# EAGLE library part BTS611 (library JLB6_power)
Dual high side switch BTS611 Infineon
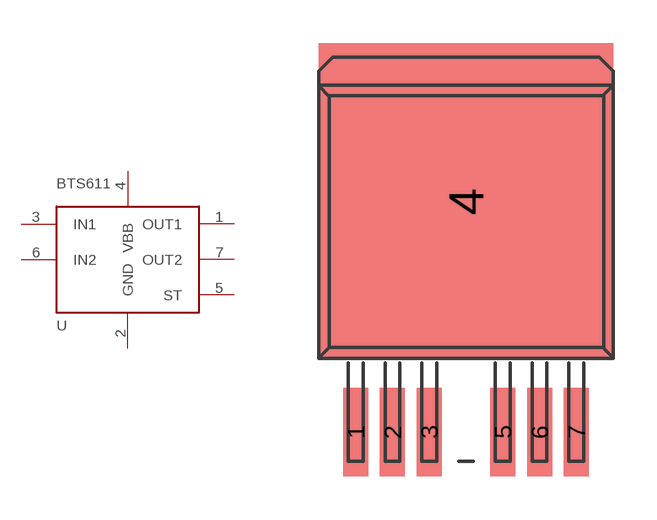
[diagram p0: symbol with the pads of TO220-6-7; footprint TO220-6-7]

Designator prefix U

## BTS611  [TO220-6-7]
1  OUT1
2  GND
3  IN1
4  VBB
5  ST
6  IN2
7  OUT2

## Footprint TO220-6-7 (pad centres in mm)
smd 0.864 x 3.048: 1 -3.81,-3.531; 2 -2.54,-3.531; 3 -1.27,-3.531; 5 1.27,-3.531; 6 2.54,-3.531; 7 3.81,-3.531
smd 10.16 x 10.922: 4 0,4.445